# Altium footprint library Devices.PcbLib: 20 footprints (part 1 of 2)
Each footprint in its own frame and in the unit in brackets; x right, y up, seen from the top. Pads: shape width x height; smd on the part's side, far side on the other; paste and mask are expansions set on the pad; w line width, h text height; cw(c..) or ccw(c..) is an arc to the next point about the centre after c.
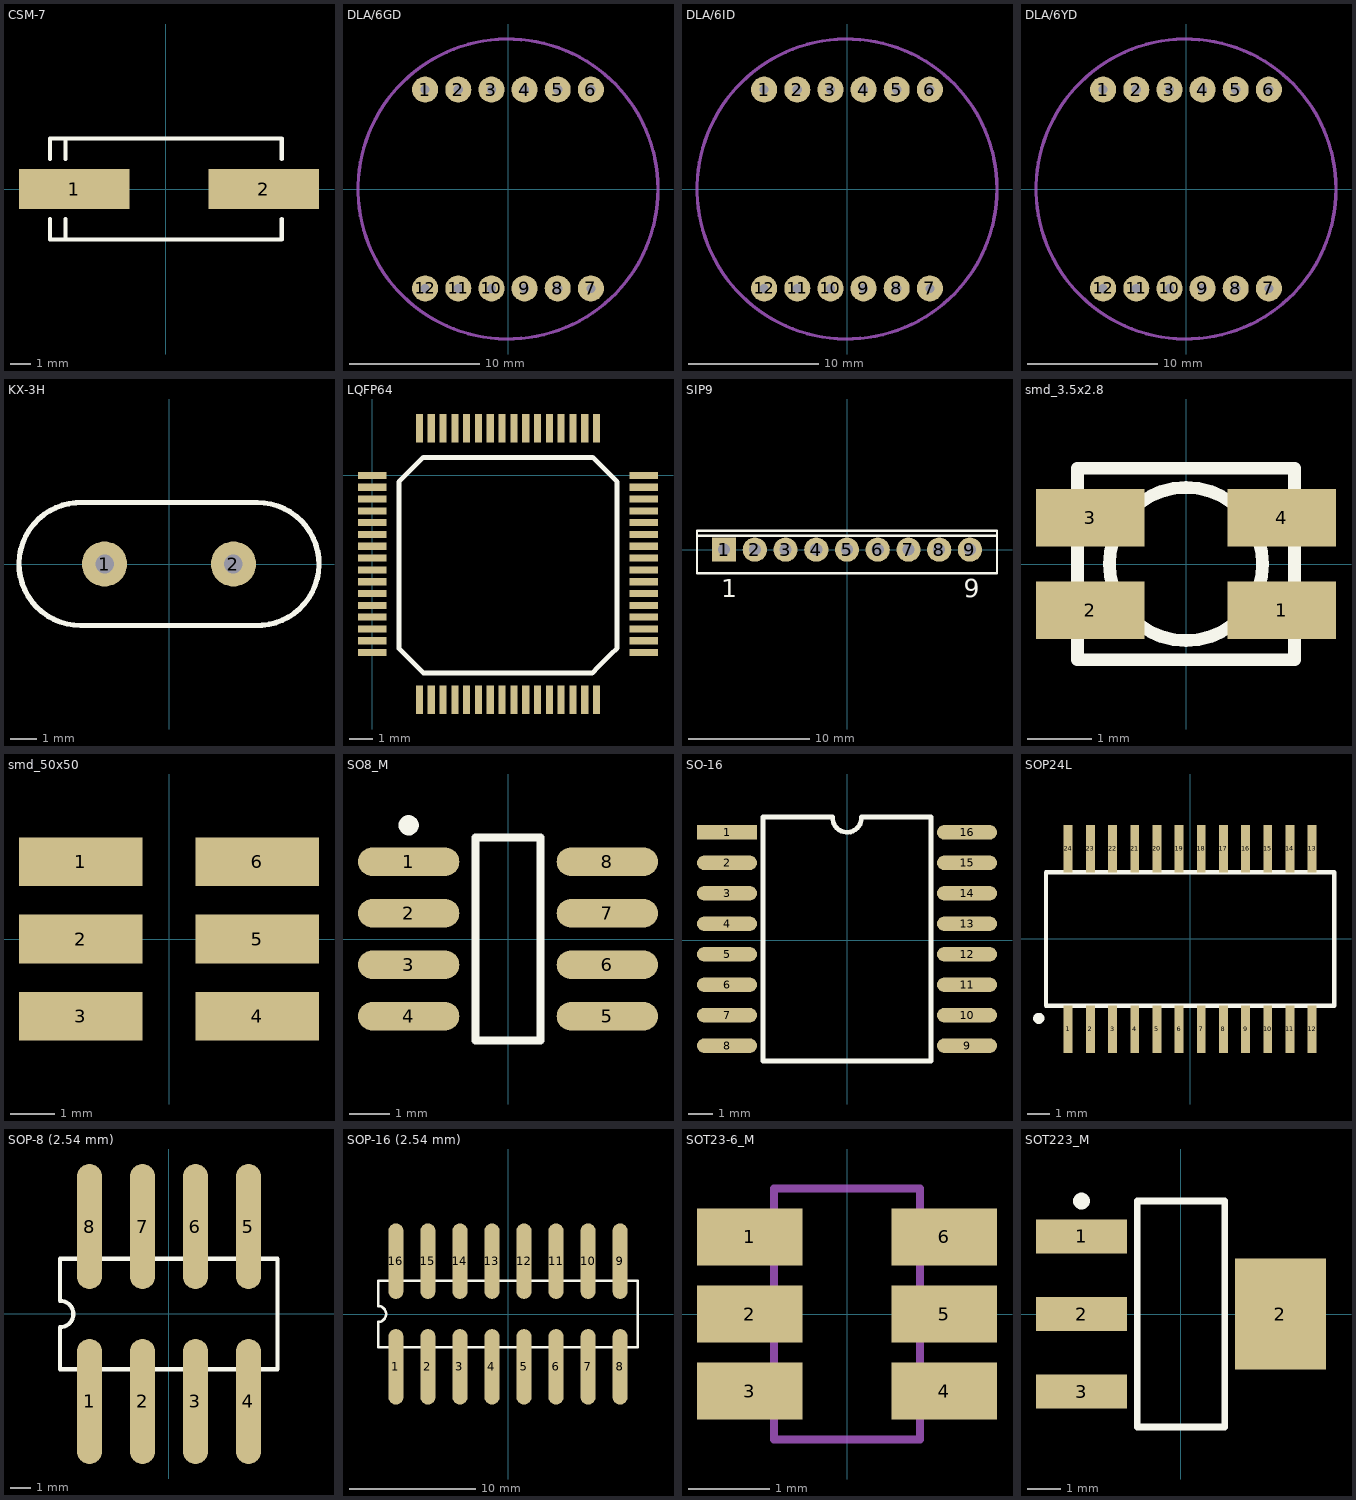
[diagram p0: the footprints below, top view; thin cyan lines are the x and y axes]

## CSM-7 [mm] "Quartz Crystal, SM; 2 Leads; Body 11.4 x 4.8 x 5 mm (LxWxH)"
height 5
pads (2):
  rect 5.5x2 smd: 1(-4.55,0) 2(4.85,0)
Top Overlay:
  lines w0.2: -5.75,-1.5 -5.75,-2.5 5.75,-2.5 5.75,-1.5 ; -5.75,1.5 -5.75,2.5 5.75,2.5 5.75,1.5 ; -5,-2.5 -5,-1.5 ; -5,1.5 -5,2.5
3D body "crystal-smd.STEP": height 4.3, standoff 0, extent -6.604,-2.5 6.896,2.5

## DLA/6GD [mm] "20mm BIG LAMP"
height 13.5
pads (12):
  round 2 hole 0.7: 1(-6.35,7.62) 2(-3.81,7.62) 3(-1.27,7.62) 4(1.27,7.62) 5(3.81,7.62) 6(6.35,7.62) 7(6.35,-7.62) 8(3.81,-7.62) 9(1.27,-7.62) 10(-1.27,-7.62) 11(-3.81,-7.62) 12(-6.35,-7.62)
Mechanical 1:
  circle w0.254: c0,0 r11.5
3D body "DLA6SGD.STEP": height 12.65, standoff 0, extent -11.295,-11.373 11.548,11.627

## DLA/6ID [mm] "20mm BIG LAMP"
height 13.5
pads (12):
  round 2 hole 0.7: 1(-6.35,7.62) 2(-3.81,7.62) 3(-1.27,7.62) 4(1.27,7.62) 5(3.81,7.62) 6(6.35,7.62) 7(6.35,-7.62) 8(3.81,-7.62) 9(1.27,-7.62) 10(-1.27,-7.62) 11(-3.81,-7.62) 12(-6.35,-7.62)
Mechanical 1:
  circle w0.254: c0,0 r11.5
3D body "DLA6ID.STEP": height 12.65, standoff 0, extent -11.295,-11.373 11.548,11.627

## DLA/6YD [mm] "20mm BIG LAMP"
height 13.5
pads (12):
  round 2 hole 0.7: 1(-6.35,7.62) 2(-3.81,7.62) 3(-1.27,7.62) 4(1.27,7.62) 5(3.81,7.62) 6(6.35,7.62) 7(6.35,-7.62) 8(3.81,-7.62) 9(1.27,-7.62) 10(-1.27,-7.62) 11(-3.81,-7.62) 12(-6.35,-7.62)
Mechanical 1:
  circle w0.254: c0,0 r11.5
3D body "Yellow.STEP": height 12.65, standoff 0, extent -11.295,-11.373 11.548,11.627

## KX-3H [mm] "Oscillator; 2 Leads"
pads (2):
  round 1.7 hole 0.7: 1(-2.44,0) 2(2.44,0)
Top Overlay:
  lines w0.2: -3.475,2.325 3.335,2.325 cw(c3.35,0) 3.255,-2.323 ; -3.255,2.323 ccw(c-3.35,0) -3.335,-2.325 3.255,-2.325
3D body "HC-49.step": height 3.5, standoff -3, extent -5.4,-2.25 5.4,2.25

## LQFP64 [mm]
pads (64):
  rect 1.2x0.3 smd: 1(0,0) 2(0,-0.5) 3(0,-1) 4(0,-1.5) 5(0,-2) 6(0,-2.5) 7(0,-3) 8(0,-3.5) 9(0,-4) 10(0,-4.5) 11(0,-5) 12(0,-5.5) 13(0,-6) 14(0,-6.5) 15(0,-7) 16(0,-7.5) 33(11.5,-7.5) 34(11.5,-7) 35(11.5,-6.5) 36(11.5,-6) 37(11.5,-5.5) 38(11.5,-5) 39(11.5,-4.5) 40(11.5,-4) 41(11.5,-3.5) 42(11.5,-3) 43(11.5,-2.5) 44(11.5,-2) 45(11.5,-1.5) 46(11.5,-1) 47(11.5,-0.5) 48(11.5,0)
  rect 0.3x1.2 smd: 17(2,-9.5) 18(2.5,-9.5) 19(3,-9.5) 20(3.5,-9.5) 21(4,-9.5) 22(4.5,-9.5) 23(5,-9.5) 24(5.5,-9.5) 25(6,-9.5) 26(6.5,-9.5) 27(7,-9.5) 28(7.5,-9.5) 29(8,-9.5) 30(8.5,-9.5) 31(9,-9.5) 32(9.5,-9.5) 49(9.5,2) 50(9,2) 51(8.5,2) 52(8,2) 53(7.5,2) 54(7,2) 55(6.5,2) 56(6,2) 57(5.5,2) 58(5,2) 59(4.5,2) 60(4,2) 61(3.5,2) 62(3,2) 63(2.5,2) 64(2,2)
Top Overlay:
  lines w0.2: 1.135,-7.325 1.135,-0.27 2.167,0.762 9.338,0.762 10.365,-0.265 10.365,-7.31 10.101,-7.574 9.574,-8.101 9.31,-8.365 2.175,-8.365 1.143,-7.333
3D body "LQFP64.STEP": height 1.6, standoff 0, extent -0.25,-9.75 11.75,2.25

## SIP9 [mm] "TO, Thru-Hole, Vertical, Heatsink Mounted; 9 In-Line Leads; Pitch 2.54 mm"
height 18.1
pads (9):
  rect 2x2 hole 1: 1(-10.16,0)
  round 2 hole 1: 2(-7.62,0) 3(-5.08,0) 4(-2.54,0) 5(0,0) 6(2.54,0) 7(5.08,0) 8(7.62,0) 9(10.16,0)
Top Overlay:
  lines w0.2: -12.4,1.15 12.4,1.15 ; -12.4,-1.95 12.4,-1.95 12.4,1.55 -12.4,1.55 -12.4,-1.95
  text "1" at -10.41,-3.925 h1.5
  text "9" at 9.66,-3.925 h1.5
3D body "SIP9.step": height 6.86, standoff -2.54, extent -11.176,-1.27 11.176,1.27

## smd_3.5x2.8 [mm]
pads (4):
  rect 1.7x0.9 smd: 1(1.5,-0.725) 2(-1.5,-0.725) 3(-1.5,0.725) 4(1.5,0.725)
Top Overlay:
  circle w0.2: c0,0 r1.2
  lines w0.2: -1.7,-1.5 1.7,-1.5 1.7,1.5 -1.7,1.5 -1.7,-1.5
3D body "PLCC4RGBCT-CA LED SMD RGB.step": height 1.9, standoff 0, extent -1.75,-1.4 1.75,1.4

## smd_50x50 [mm] "Footprint smd50x50"
height 1.9
pads (6):
  rect 2.8x1.1 smd: 1(-2,1.75) 2(-2,0) 3(-2,-1.75) 4(2,-1.75) 5(2,0) 6(2,1.75)
3D body "SMD_5050.step": height 1.55, standoff 0, extent -2.775,-2.5 2.725,2.5

## SO8_M [mm] "SOIC, 8-Leads, Body 4.9x3.9mm, Pitch 1.27mm, IPC Low Density"
height 1.75
pads (8):
  oval 2.5x0.7 smd: 1(-2.45,1.905) 2(-2.45,0.635) 3(-2.45,-0.635) 4(-2.45,-1.905) 5(2.45,-1.905) 6(2.45,-0.635) 7(2.45,0.635) 8(2.45,1.905)
Top Overlay:
  circle w0.25: c-2.45,2.805 r0.125
  lines w0.2: -0.8,-2.5 -0.8,2.5 0.8,2.5 0.8,-2.5 -0.8,-2.5
3D body "SO-8.step": height 1.45, standoff 0, extent -2.914,-2.452 2.864,2.45

## SO-16 [mm]
pads (16):
  rect 2.5x0.6 smd: 1(-5,4.5)
  oval 2.5x0.6 smd: 2(-5,3.23) 3(-5,1.96) 4(-5,0.69) 5(-5,-0.58) 6(-5,-1.85) 7(-5,-3.12) 8(-5,-4.39) 9(5,-4.39) 10(5,-3.12) 11(5,-1.85) 12(5,-0.58) 13(5,0.69) 14(5,1.96) 15(5,3.23) 16(5,4.5)
Top Overlay:
  lines w0.2: -0.599,5.135 ccw(c0,5.1) 0.599,5.13 ; -0.595,5.135 -3.5,5.135 -3.5,-5.025 3.5,-5.025 3.5,5.135 0.592,5.135
3D body "so16w.step": height -0.4, standoff -3.9, extent -5.15,-5.05 5.15,5.15

## SOP24L [mm] "SOP, Plastic; 24 Leads; Body Width 6 mm; Pitch 1 mm"
height 2
pads (24):
  rect 0.4x2.15 smd: 1(-5.5,-4.075) 2(-4.5,-4.075) 3(-3.5,-4.075) 4(-2.5,-4.075) 5(-1.5,-4.075) 6(-0.5,-4.075) 7(0.5,-4.075) 8(1.5,-4.075) 9(2.5,-4.075) 10(3.5,-4.075) 11(4.5,-4.075) 12(5.5,-4.075) 13(5.5,4.075) 14(4.5,4.075) 15(3.5,4.075) 16(2.5,4.075) 17(1.5,4.075) 18(0.5,4.075) 19(-0.5,4.075) 20(-1.5,4.075) 21(-2.5,4.075) 22(-3.5,4.075) 23(-4.5,4.075) 24(-5.5,4.075)
Top Overlay:
  circle w0.25: c-6.825,-3.575 r0.125
  lines w0.2: -6.5,-3 -6.5,3 6.5,3 6.5,-3 -6.5,-3
3D body "SOP24L.step": height 1.65, standoff 0, extent -6.5,-3.978 6.5,3.978

## SOP-8 (2.54 mm) [mm] "SOP; 8 Leads; Row Spacing 7.62 mm; Pitch 2.54 mm"
height 4.45
pads (8):
  oval 1.2x6 smd: 1(-3.81,-4.191) 2(-1.27,-4.191) 3(1.27,-4.191) 4(3.81,-4.191) 5(3.81,4.191) 6(1.27,4.191) 7(-1.27,4.191) 8(-3.81,4.191)
Top Overlay:
  lines w0.2: -5.22,-2.65 -5.22,-0.635 ccw(c-5.22,0) -5.22,0.635 -5.22,2.65 5.207,2.65 5.207,-2.65 -5.22,-2.65
3D body "sop8-2_54.step": height 2.05, standoff 0, extent -4.7,-3.302 4.7,3.498

## SOP-16 (2.54 mm) [mm] "SOP; 16 Leads; Row Spacing 7.62 mm; Pitch 2.54 mm"
height 4.45
pads (16):
  oval 1.2x6 smd: 1(-8.89,-4.191) 2(-6.35,-4.191) 3(-3.81,-4.191) 4(-1.27,-4.191) 5(1.27,-4.191) 6(3.81,-4.191) 7(6.35,-4.191) 8(8.89,-4.191) 9(8.89,4.191) 10(6.35,4.191) 11(3.81,4.191) 12(1.27,4.191) 13(-1.27,4.191) 14(-3.81,4.191) 15(-6.35,4.191) 16(-8.89,4.191)
Top Overlay:
  lines w0.2: -10.3,-2.65 10.3,-2.65 10.3,2.65 -10.3,2.65 -10.3,0.635 cw(c-10.3,0) -10.3,-0.635 -10.3,-2.65
3D body "DIP16_SMD.step": height 4.45, standoff 0, extent -10.16,-4.746 10.141,5.254

## SOT23-6_M [mm] "SOT23, 6-Leads, Body 2.9x1.6mm, Pitch 0.95mm, Lead Span 2.7mm, IPC Low Density"
height 1.45
pads (6):
  rect 1.3x0.7 smd: 1(-1.2,0.95) 2(-1.2,0) 3(-1.2,-0.95) 4(1.2,-0.95) 5(1.2,0) 6(1.2,0.95)
Mechanical 13:
  lines w0.1: -0.9,-1.55 0.9,-1.55 0.9,1.55 -0.9,1.55 -0.9,-1.55
3D body "SOT23-6.step": height 1.3, standoff 0, extent -1.5,-1.5 1.5,1.5

## SOT223_M [mm] "SOT223, 4-Leads, Body 6.5x3.5mm, Pitch 2.3mm, Lead Span 7mm, IPC Low Density"
height 1.7
pads (4):
  rect 2.7x1 smd: 1(-2.95,2.3) 2(-2.95,0) 3(-2.95,-2.3)
  rect 2.7x3.3 smd: 2(2.95,0)
Top Overlay:
  circle w0.25: c-2.95,3.35 r0.125
  lines w0.2: -1.3,-3.35 -1.3,3.35 1.3,3.35 1.3,-3.35 -1.3,-3.35
3D body "SOT-223.step": height 1.65, standoff -0.03, extent -3.555,-3.25 3.405,3.25